# Altium footprint library IDC2.54.PcbLib: 19 footprints (part 2 of 2)
Each footprint in its own frame and in the unit in brackets; x right, y up, seen from the top. Pads: shape width x height; smd on the part's side, far side on the other; paste and mask are expansions set on the pad; w line width, h text height; cw(c..) or ccw(c..) is an arc to the next point about the centre after c.
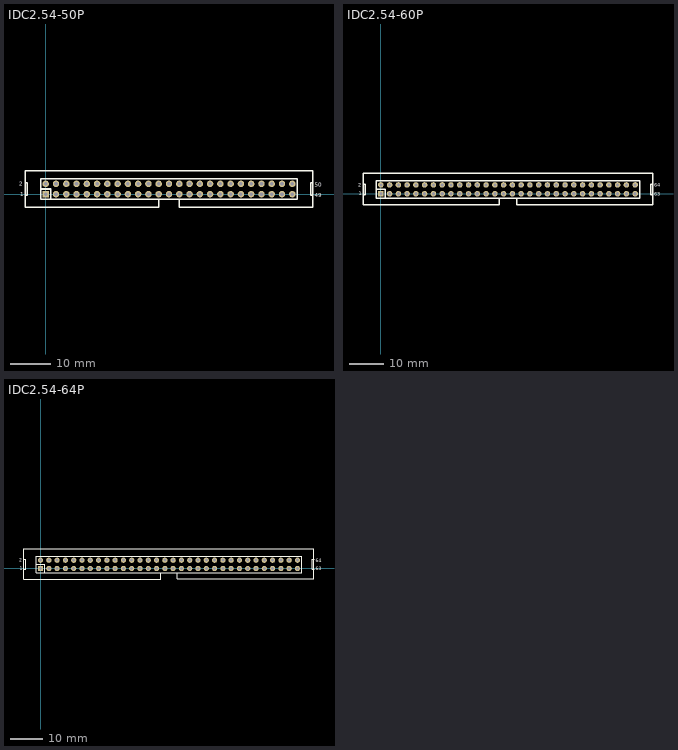
[diagram p1: the footprints below, top view; thin cyan lines are the x and y axes]

## IDC2.54-50P [mm] "50P简易牛角座"
pads (50):
  rect 1.6x1.6 hole 0.9: 1(0,0)
  round 1.6 hole 0.9: 2(0,2.54) 3(2.54,0) 4(2.54,2.54) 5(5.08,0) 6(5.08,2.54) 7(7.62,0) 8(7.62,2.54) 9(10.16,0) 10(10.16,2.54) 11(12.7,0) 12(12.7,2.54) 13(15.24,0) 14(15.24,2.54) 15(17.78,0) 16(17.78,2.54) 17(20.32,0) 18(20.32,2.54) 19(22.86,0) 20(22.86,2.54) 21(25.4,0) 22(25.4,2.54) 23(27.94,0) 24(27.94,2.54) 25(30.48,0) 26(30.48,2.54) 27(33.02,0) 28(33.02,2.54) 29(35.56,0) 30(35.56,2.54) 31(38.1,0) 32(38.1,2.54) 33(40.64,0) 34(40.64,2.54) 35(43.18,0) 36(43.18,2.54) 37(45.72,0) 38(45.72,2.54) 39(48.26,0) 40(48.26,2.54) 41(50.8,0) 42(50.8,2.54) 43(53.34,0) 44(53.34,2.54) 45(55.88,0) 46(55.88,2.54) 47(58.42,0) 48(58.42,2.54) 49(60.96,0) 50(60.96,2.54)
Top Overlay:
  lines w0.381: -5.11,-0.254 -4.572,-0.254 -4.572,2.794 -5.08,2.794 ; -1.27,1.27 1.27,1.27 1.27,-1.27 ; 27.94,-1.27 27.94,-3.23 -5.11,-3.23 -5.11,5.77 66.04,5.77 66.04,-3.23 33.02,-3.23 33.02,-1.27 ; 66.04,-0.254 65.532,-0.254 65.532,2.794 66.07,2.794 ; -1.27,-1.27 49.479,-1.27 62.23,-1.27 62.23,3.81 49.53,3.81 -1.27,3.81 -1.27,-1.27
  text "2" at -6.604,2.032 h1.02
  text "1" at -6.35,-0.508 h1.02
  text "50" at 66.548,1.829 h1.02
  text "49" at 66.548,-0.711 h1.02
Bottom Overlay:
  lines w0.6: -1.041,1.27 61.976,1.27 ; 1.27,-0.813 1.27,3.556 ; 3.81,-0.813 3.81,3.556 ; 6.35,-0.813 6.35,3.556 ; 8.89,-0.813 8.89,3.556 ; 11.43,-0.813 11.43,3.556 ; 13.97,-0.813 13.97,3.556 ; 16.51,-0.813 16.51,3.556 ; 19.05,-0.813 19.05,3.556 ; 21.59,-0.813 21.59,3.556 ; 24.13,-0.813 24.13,3.556 ; 26.67,-0.813 26.67,3.556 ; 29.21,-0.813 29.21,3.556 ; 31.75,-0.813 31.75,3.556 ; 34.29,-0.813 34.29,3.556 ; 36.83,-0.813 36.83,3.556 ; 39.37,-0.813 39.37,3.556 ; 41.91,-0.813 41.91,3.556 ; 44.45,-0.813 44.45,3.556 ; 46.99,-0.838 46.99,3.531 ; 49.53,-0.813 49.53,3.556 ; 52.07,-0.813 52.07,3.556 ; 54.61,-0.813 54.61,3.556 ; 57.15,-0.813 57.15,3.556 ; 59.69,-0.838 59.69,3.531
3D body: height 9.17, standoff -3, extent -5.08,-3.08 66.04,5.77

## IDC2.54-60P [mm] "60P简易牛角座"
pads (60):
  rect 1.6x1.6 hole 0.9: 1(0,0)
  round 1.6 hole 0.9: 2(0,2.54) 3(2.54,0) 4(2.54,2.54) 5(5.08,0) 6(5.08,2.54) 7(7.62,0) 8(7.62,2.54) 9(10.16,0) 10(10.16,2.54) 11(12.7,0) 12(12.7,2.54) 13(15.24,0) 14(15.24,2.54) 15(17.78,0) 16(17.78,2.54) 17(20.32,0) 18(20.32,2.54) 19(22.86,0) 20(22.86,2.54) 21(25.4,0) 22(25.4,2.54) 23(27.94,0) 24(27.94,2.54) 25(30.48,0) 26(30.48,2.54) 27(33.02,0) 28(33.02,2.54) 29(35.56,0) 30(35.56,2.54) 31(38.1,0) 32(38.1,2.54) 33(40.64,0) 34(40.64,2.54) 35(43.18,0) 36(43.18,2.54) 37(45.72,0) 38(45.72,2.54) 39(48.26,0) 40(48.26,2.54) 41(50.8,0) 42(50.8,2.54) 43(53.34,0) 44(53.34,2.54) 45(55.88,0) 46(55.88,2.54) 47(58.42,0) 48(58.42,2.54) 49(60.96,0) 50(60.96,2.54) 51(63.5,0) 52(63.5,2.54) 53(66.04,0) 54(66.04,2.54) 55(68.58,0) 56(68.58,2.54) 57(71.12,0) 58(71.12,2.54) 59(73.66,0) 60(73.66,2.54)
Top Overlay:
  lines w0.381: -5.11,-0.254 -4.572,-0.254 -4.572,2.794 -5.08,2.794 ; -1.27,1.27 1.27,1.27 1.27,-1.27 ; 34.29,-1.27 34.29,-3.23 -5.11,-3.23 -5.11,5.969 78.704,5.969 78.704,-3.175 39.37,-3.175 39.37,-1.27 ; 78.74,-0.254 78.232,-0.254 78.232,2.794 78.77,2.794 ; -1.27,-1.27 49.479,-1.27 74.93,-1.27 74.93,3.81 49.53,3.81 -1.27,3.81 -1.27,-1.27
  text "2" at -6.604,2.032 h1.02
  text "1" at -6.35,-0.508 h1.02
  text "63" at 79.248,-0.584 h1.02
  text "64" at 79.248,1.956 h1.02
Bottom Overlay:
  lines w0.6: -1.041,1.27 74.676,1.27 ; 1.27,-0.813 1.27,3.556 ; 3.81,-0.813 3.81,3.556 ; 6.35,-0.813 6.35,3.556 ; 8.89,-0.813 8.89,3.556 ; 11.43,-0.813 11.43,3.556 ; 13.97,-0.813 13.97,3.556 ; 16.51,-0.813 16.51,3.556 ; 19.05,-0.813 19.05,3.556 ; 21.59,-0.813 21.59,3.556 ; 24.13,-0.813 24.13,3.556 ; 26.67,-0.813 26.67,3.556 ; 29.21,-0.813 29.21,3.556 ; 31.75,-0.813 31.75,3.556 ; 34.29,-0.813 34.29,3.556 ; 36.83,-0.813 36.83,3.556 ; 39.37,-0.813 39.37,3.556 ; 41.91,-0.813 41.91,3.556 ; 44.45,-0.813 44.45,3.556 ; 46.99,-0.838 46.99,3.531 ; 49.53,-0.813 49.53,3.556 ; 52.07,-0.813 52.07,3.556 ; 54.61,-0.813 54.61,3.556 ; 57.15,-0.813 57.15,3.556 ; 59.69,-0.838 59.69,3.531 ; 62.23,-0.813 62.23,3.556 ; 64.77,-0.838 64.77,3.531 ; 67.31,-0.813 67.31,3.556 ; 69.85,-0.813 69.85,3.556 ; 72.39,-0.813 72.39,3.556
3D body: height 9.17, standoff -3, extent -5.08,-3.08 78.74,5.77

## IDC2.54-64P [mm] "64P简易牛角座"
pads (64):
  rect 1.6x1.6 hole 0.9: 1(0,0)
  round 1.6 hole 0.9: 2(0,2.54) 3(2.54,0) 4(2.54,2.54) 5(5.08,0) 6(5.08,2.54) 7(7.62,0) 8(7.62,2.54) 9(10.16,0) 10(10.16,2.54) 11(12.7,0) 12(12.7,2.54) 13(15.24,0) 14(15.24,2.54) 15(17.78,0) 16(17.78,2.54) 17(20.32,0) 18(20.32,2.54) 19(22.86,0) 20(22.86,2.54) 21(25.4,0) 22(25.4,2.54) 23(27.94,0) 24(27.94,2.54) 25(30.48,0) 26(30.48,2.54) 27(33.02,0) 28(33.02,2.54) 29(35.56,0) 30(35.56,2.54) 31(38.1,0) 32(38.1,2.54) 33(40.64,0) 34(40.64,2.54) 35(43.18,0) 36(43.18,2.54) 37(45.72,0) 38(45.72,2.54) 39(48.26,0) 40(48.26,2.54) 41(50.8,0) 42(50.8,2.54) 43(53.34,0) 44(53.34,2.54) 45(55.88,0) 46(55.88,2.54) 47(58.42,0) 48(58.42,2.54) 49(60.96,0) 50(60.96,2.54) 51(63.5,0) 52(63.5,2.54) 53(66.04,0) 54(66.04,2.54) 55(68.58,0) 56(68.58,2.54) 57(71.12,0) 58(71.12,2.54) 59(73.66,0) 60(73.66,2.54) 61(76.2,0) 62(76.2,2.54) 63(78.74,0) 64(78.74,2.54)
Top Overlay:
  lines w0.381: -5.11,-0.254 -4.572,-0.254 -4.572,2.794 -5.08,2.794 ; -1.27,1.27 1.27,1.27 1.27,-1.27 ; 36.83,-1.27 36.83,-3.23 -5.11,-3.23 -5.11,5.969 83.784,5.969 83.784,-3.175 41.91,-3.175 41.91,-1.27 ; 83.82,-0.254 83.312,-0.254 83.312,2.794 83.85,2.794 ; -1.27,-1.27 -1.27,3.81 49.53,3.81 80.01,3.81 80.01,-1.27 49.479,-1.27 -1.27,-1.27
  text "63" at 84.328,-0.584 h1.02
  text "64" at 84.328,1.956 h1.02
  text "1" at -6.35,-0.508 h1.02
  text "2" at -6.604,2.032 h1.02
Bottom Overlay:
  lines w0.6: -1.041,1.27 79.756,1.27 ; 1.27,-0.813 1.27,3.556 ; 3.81,-0.813 3.81,3.556 ; 6.35,-0.813 6.35,3.556 ; 8.89,-0.813 8.89,3.556 ; 11.43,-0.813 11.43,3.556 ; 13.97,-0.813 13.97,3.556 ; 16.51,-0.813 16.51,3.556 ; 19.05,-0.813 19.05,3.556 ; 21.59,-0.813 21.59,3.556 ; 24.13,-0.813 24.13,3.556 ; 26.67,-0.813 26.67,3.556 ; 29.21,-0.813 29.21,3.556 ; 31.75,-0.813 31.75,3.556 ; 34.29,-0.813 34.29,3.556 ; 36.83,-0.813 36.83,3.556 ; 39.37,-0.813 39.37,3.556 ; 41.91,-0.813 41.91,3.556 ; 44.45,-0.813 44.45,3.556 ; 46.99,-0.838 46.99,3.531 ; 49.53,-0.813 49.53,3.556 ; 52.07,-0.813 52.07,3.556 ; 54.61,-0.813 54.61,3.556 ; 57.15,-0.813 57.15,3.556 ; 59.69,-0.838 59.69,3.531 ; 62.23,-0.813 62.23,3.556 ; 64.77,-0.838 64.77,3.531 ; 67.31,-0.813 67.31,3.556 ; 69.85,-0.813 69.85,3.556 ; 72.39,-0.813 72.39,3.556 ; 74.93,-0.813 74.93,3.556 ; 77.47,-0.838 77.47,3.531
3D body: height 9.17, standoff -3, extent -5.08,-3.08 83.82,5.77